# Altium footprint library Microfon.PcbLib: 17 footprints (part 1 of 2)
Each footprint in its own frame and in the unit in brackets; x right, y up, seen from the top. Pads: shape width x height; smd on the part's side, far side on the other; paste and mask are expansions set on the pad; w line width, h text height; cw(c..) or ccw(c..) is an arc to the next point about the centre after c.
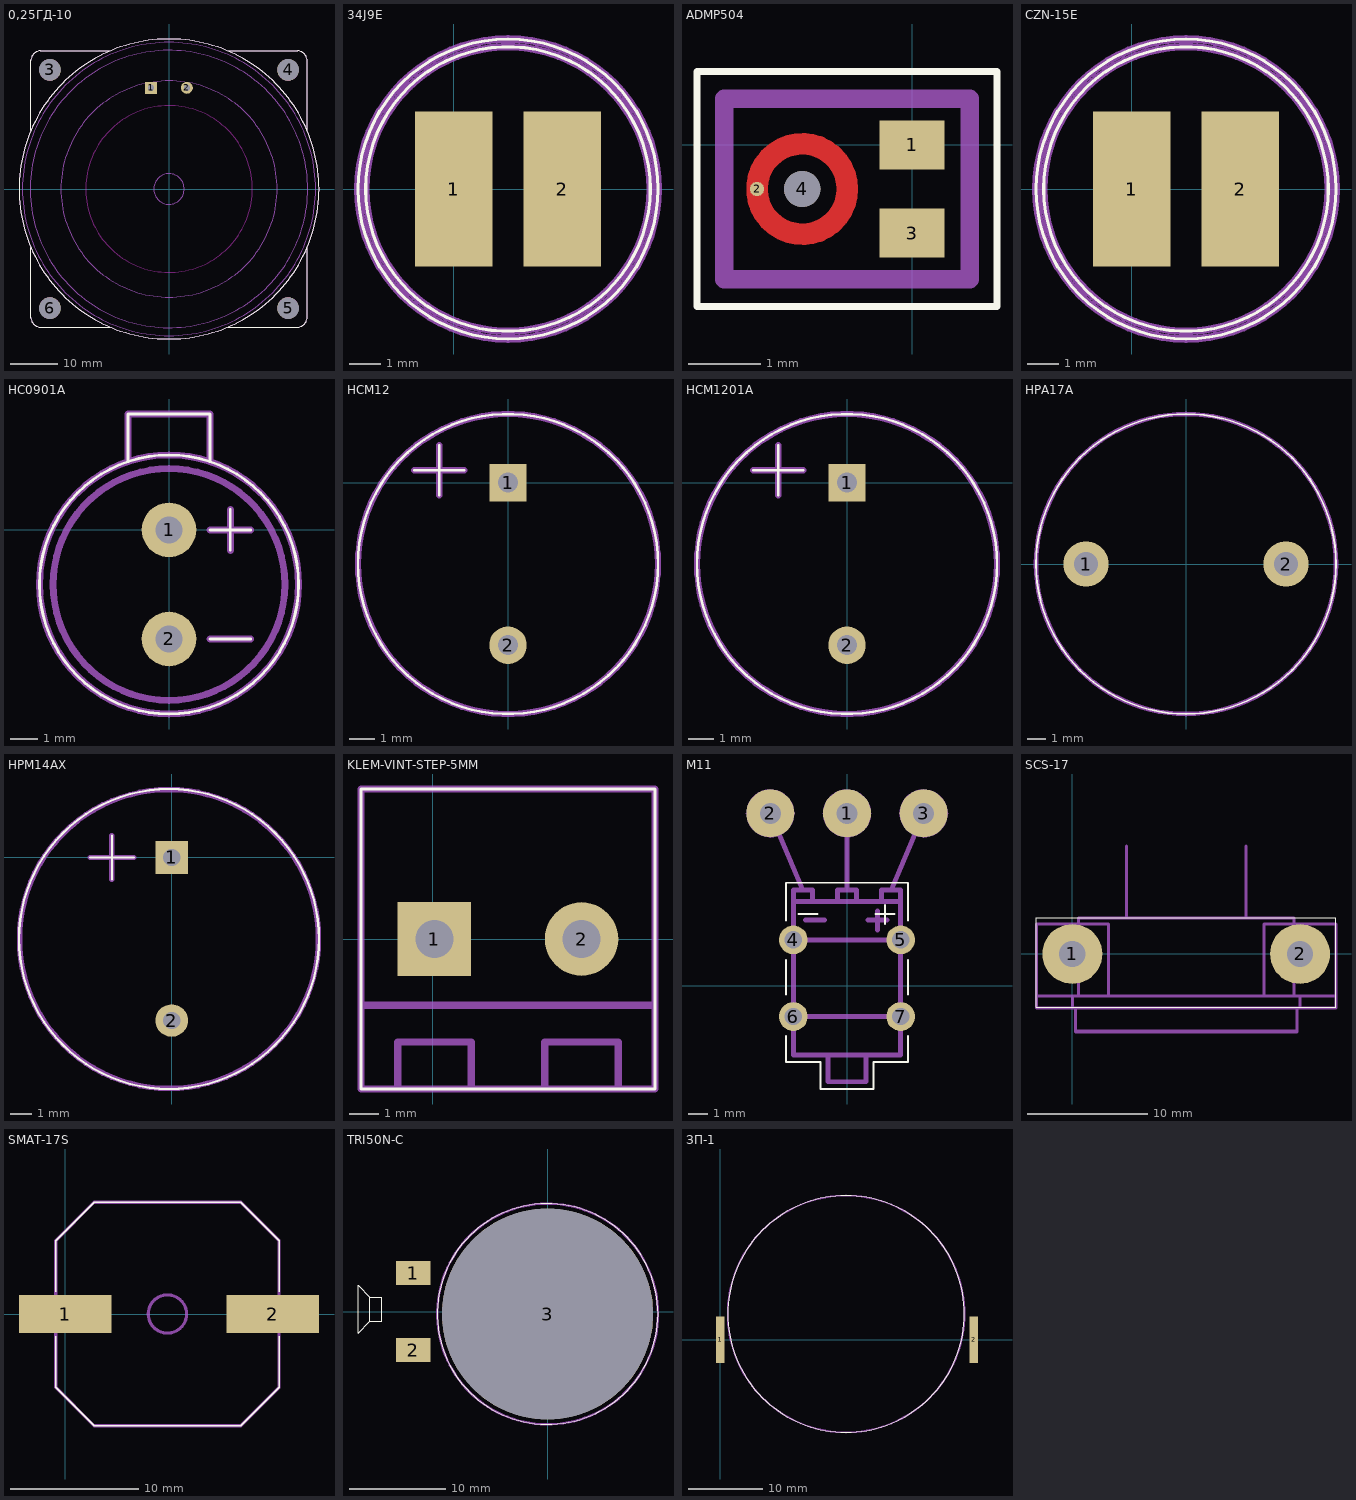
[diagram p0: the footprints below, top view; thin cyan lines are the x and y axes]

## 0,25ГД-10 [mm]
pads (6):
  rect 2.5x2.5 hole 1.3: 1(-3.75,21.25)
  round 2.5 hole 1.3: 2(3.75,21.25)
  round 4.5 hole 4.5: 3(-25,25) 4(25,25) 5(25,-25) 6(-25,-25)
Top Overlay:
  circle w0.1: c0,0 r31.5
  lines w0.1: -29,-12.298 -29,-27 ccw(c-27,-27) -27,-29 -12.298,-29 ; -29,12.299 -29,27 cw(c-27,27) -27,29 -12.298,29 ; 12.298,-29 27,-29 ccw(c27,-27) 29,-27 29,-12.298 ; 12.298,29 27,29 cw(c27,27) 29,27 29,12.299
Keep-Out Layer:
  circle w0.25: c0,0 r17.5
Mechanical 1:
  circle w0.25: c0,0 r22.7
  circle w0.25: c0,0 r30.789
  circle w0.25: c0,0 r29.131
  circle w0.25: c0,0 r31.5
  circle w0.25: c-25,25 r2.15
  circle w0.25: c-25,-25 r2.15
  circle w0.25: c25,25 r2.15
  circle w0.25: c0,0 r3.202
  circle w0.25: c25,-25 r2.15
  lines w0.25: -29,-12.298 -29,-27 ccw(c-27,-27) -27,-29 -12.298,-29 ; -29,12.299 -29,27 cw(c-27,27) -27,29 -12.298,29 ; 12.298,-29 27,-29 ccw(c27,-27) 29,-27 29,-12.298 ; 12.298,29 27,29 cw(c27,27) 29,27 29,12.299

## 34J9E [mm]
pads (2):
  rect 2.5x5 smd: 1(0,0) 2(3.5,0)
Top Overlay:
  lines w0.1: -3.1,0 cw(c1.75,0) 6.6,0 cw(c1.75,0) -3.1,0 ; -2.85,0 cw(c1.75,0) 6.35,0 cw(c1.75,0) -2.85,0
Mechanical 1:
  lines w0.25: -3.1,0 cw(c1.75,0) 6.6,0 cw(c1.75,0) -3.1,0 ; -2.85,0 cw(c1.75,0) 6.35,0 cw(c1.75,0) -2.85,0

## ADMP504 [mm]
pads (4):
  rect 0.9x0.68 smd mask-25.4: 1(0,0) 3(0,-1.22)
  round 0.2 smd mask-25.4: 2(-2.145,-0.61)
  round 0.5 hole 0.5 unplated: 4(-1.52,-0.61)
Top Layer:
  circle w0.3: c-1.52,-0.61 r0.625
Top Overlay:
  lines w0.1: -2.975,-2.235 1.175,-2.235 1.175,1.015 -2.975,1.015 -2.975,-2.235
Top Paste:
  circle w0.3: c-1.52,-0.61 r0.625
Top Solder:
  circle w0.4: c-1.52,-0.61 r0.625
  region: -0.5,-0.39 0.5,-0.39 0.5,0.39 -0.5,0.39
  region: -0.5,-1.61 0.5,-1.61 0.5,-0.83 -0.5,-0.83
  region: -2.145,-0.448 -2.26,-0.495 -2.307,-0.61 -2.26,-0.725 -2.145,-0.772 -2.03,-0.725 -1.983,-0.61 -2.03,-0.495
  region: -1.52,-0.304 -1.637,-0.327 -1.736,-0.394 -1.803,-0.493 -1.826,-0.61 -1.803,-0.727 -1.736,-0.826 -1.637,-0.893 -1.52,-0.916 -1.403,-0.893 -1.304,-0.826 -1.237,-0.727 -1.214,-0.61 -1.237,-0.493 -1.304,-0.394 -1.403,-0.327
Mechanical 1:
  lines w0.254: 0.8,-1.86 -2.6,-1.86 -2.6,0.64 0.8,0.64 ; 0.8,-1.86 0.8,0.64 ; 0.8,-1.86 0.8,0.64

## CZN-15E [mm]
pads (2):
  rect 2.5x5 smd: 1(0,0) 2(3.5,0)
Top Overlay:
  lines w0.1: -3.1,0 cw(c1.75,0) 6.6,0 cw(c1.75,0) -3.1,0 ; -2.85,0 cw(c1.75,0) 6.35,0 cw(c1.75,0) -2.85,0
Mechanical 1:
  lines w0.25: -3.1,0 cw(c1.75,0) 6.6,0 cw(c1.75,0) -3.1,0 ; -2.85,0 cw(c1.75,0) 6.35,0 cw(c1.75,0) -2.85,0

## HC0901A [mm]
pads (2):
  round 2 hole 1: 1(0,0) 2(0,-4)
Top Overlay:
  lines w0.1: -1.5,2.5 -1.5,4.25 1.25,4.25 1.5,4.25 1.5,2.5 ; 1.5,-4 3,-4 ; 1.5,0 3,0 ; 2.25,-0.75 2.25,0.75 ; -4.75,-2 cw(c0,-2) 4.75,-2 cw(c0,-2) -4.75,-2
Mechanical 1:
  lines w0.25: -1.5,2.5 -1.5,4.25 1.25,4.25 1.5,4.25 1.5,2.5 ; 1.5,-4 3,-4 ; 1.5,0 3,0 ; 2.25,-0.75 2.25,0.75 ; -4.75,-2 cw(c0,-2) 4.75,-2 cw(c0,-2) -4.75,-2 ; -4.25,-2 cw(c0,-2) 4.25,-2 cw(c0,-2) -4.25,-2

## HCM12 [mm]
pads (2):
  rect 1.5x1.5 hole 0.8: 1(0,0)
  round 1.5 hole 0.8: 2(0,-6.5)
Top Overlay:
  lines w0.1: -3.75,0.5 -1.75,0.5 ; -2.75,-0.5 -2.75,1.5 ; -6,-3.25 cw(c0,-3.25) 6,-3.25 cw(c0,-3.25) -6,-3.25
Mechanical 1:
  lines w0.25: -3.75,0.5 -1.75,0.5 ; -2.75,-0.5 -2.75,1.5 ; -6,-3.25 cw(c0,-3.25) 6,-3.25 cw(c0,-3.25) -6,-3.25

## HCM1201A [mm]
pads (2):
  rect 1.5x1.5 hole 0.8: 1(0,0)
  round 1.5 hole 0.8: 2(0,-6.5)
Top Overlay:
  lines w0.1: -3.75,0.5 -1.75,0.5 ; -2.75,-0.5 -2.75,1.5 ; -6,-3.25 cw(c0,-3.25) 6,-3.25 cw(c0,-3.25) -6,-3.25
Mechanical 1:
  lines w0.25: -3.75,0.5 -1.75,0.5 ; -2.75,-0.5 -2.75,1.5 ; -6,-3.25 cw(c0,-3.25) 6,-3.25 cw(c0,-3.25) -6,-3.25

## HPA17A [mm]
pads (2):
  round 2.5 hole 1.3: 1(-5.5,0) 2(5.5,0)
Top Overlay:
  lines w0.1: -8.25,0 cw(c0,0) 8.25,0 cw(c0,0) -8.25,0
Mechanical 1:
  lines w0.25: -8.25,0 cw(c0,0) 8.25,0 cw(c0,0) -8.25,0

## HPM14AX [mm]
pads (2):
  rect 1.5x1.5 hole 0.8: 1(0,0)
  round 1.5 hole 0.8: 2(0,-7.5)
Top Overlay:
  lines w0.1: -3.75,0 -1.75,0 ; -2.75,-1 -2.75,1 ; -7.025,-3.75 cw(c-0.125,-3.75) 6.775,-3.75 cw(c-0.125,-3.75) -7.025,-3.75
Mechanical 1:
  lines w0.25: -3.75,0 -1.75,0 ; -2.75,-1 -2.75,1 ; -7,-3.75 cw(c-0.125,-3.75) 6.75,-3.75 cw(c-0.125,-3.75) -7,-3.75

## KLEM-VINT-STEP-5MM [mm]
pads (2):
  rect 2.5x2.5 hole 1.3: 1(0.055,0)
  round 2.5 hole 1.3: 2(5.055,0)
Top Overlay:
  lines w0.1: -2.445,-5.1 7.555,-5.1 7.555,5.1 -2.445,5.1 -2.445,-5.1
Mechanical 1:
  lines w0.25: -2.445,-2.25 7.555,-2.25 ; -1.195,-5 -1.195,-3.5 1.305,-3.5 1.305,-5 ; 3.805,-5 3.805,-3.5 6.305,-3.5 6.305,-5 ; -2.445,-5.1 7.555,-5.1 7.555,5.1 -2.445,5.1 -2.445,-5.1

## M11 [mm]
pads (7):
  round 2.5 hole 1.1: 1(0,9) 2(-4,9) 3(4,9)
  round 1.5 hole 0.9: 4(-2.8,2.4) 5(2.8,2.4) 6(-2.8,-1.6) 7(2.8,-1.6)
Top Overlay:
  lines w0.1: -3.18,-2.62 -3.18,-3.98 -1.38,-3.98 -1.38,-5.38 1.38,-5.38 1.38,-3.98 3.18,-3.98 3.18,-2.62 ; -3.18,-0.45 -3.18,1.35 ; -3.18,3.42 -3.18,5.38 3.18,5.38 3.18,3.42 ; -2.53,3.75 -1.53,3.75 ; 1.48,3.75 2.48,3.75 ; 1.98,3.22 1.98,4.22 ; 3.18,-0.45 3.18,1.35
Mechanical 1:
  circle w0.229: c0,9 r1.143
  circle w0.229: c0,9 r0.508
  circle w0.229: c4,9 r1.143
  circle w0.229: c4,9 r0.508
  circle w0.229: c-4,9 r1.143
  circle w0.229: c-4,9 r0.508
  lines w0.025: -5.27,9 -2.73,9 ; -4,7.73 -4,10.27 ; -1.27,9 1.27,9 ; 0,7.73 0,10.27 ; 2.73,9 5.27,9 ; 4,7.73 4,10.27
  lines w0.254: -4,9 -2.3,5 ; -2.8,-1.6 2.8,-1.6 ; -2.8,2.4 2.8,2.4 ; -2.17,3.43 -1.17,3.43 ; -1.8,4.4 -1.8,5 -2.8,5 -2.8,4.4 ; -1,-3.6 -1,-5 1,-5 1,-3.6 ; -0.5,4.4 -0.5,5 0.5,5 0.5,4.4 ; 0,5 0,9 ; 1.09,3.43 2.09,3.43 ; 1.59,2.9 1.59,3.9 ; 1.8,4.4 1.8,5 2.8,5 2.8,4.4 ; 2.3,5 4,9 ; -2.8,4.4 2.8,4.4 ; -2.8,4.4 -2.8,-3.6 2.8,-3.6 2.8,4.4

## PCBComponent_1 [mm]

## SCS-17 [mm]
pads (2):
  round 5 hole 2.2 unplated: 1(0,0) 2(19,0)
Top Overlay:
  circle w0.025: c19,0 r0.784
  circle w0.025: c0,0 r0.784
  lines w0.1: -3.04,-4.46 21.96,-4.46 21.96,3.04 -3.04,3.04 -3.04,-4.46
Mechanical 1:
  lines w0.15: 0.26,-4.46 0.26,-6.36 18.76,-6.36 18.76,-4.46 ; 4.46,3.04 4.46,5.74 ; 14.46,3.04 14.46,5.74
  lines w0.25: 0.25,-4.5 0.25,-6.5 18.75,-6.5 18.75,-4.5 ; 0.5,-3.5 0.5,3 18.5,3 18.5,-3.5 ; 3,-3.5 3,2.5 0.5,2.5 -3,2.5 -3,-2.5 -3,-3.5 ; 4.5,3 4.5,9 ; 14.5,3 14.5,9 ; 16,-3.5 16,2.5 18.5,2.5 22,2.5 22,-2.5 22,-3.5 ; -3,-3.5 0,-3.5 ; -3,-3.5 -3,-4.5 0,-4.5 ; 0,-4.5 19,-4.5 ; 0,-4.5 0,-3.5 ; 0,-3.5 19,-3.5 ; 19,-4.5 22,-4.5 22,-3.5 ; 19,-4.5 19,-3.5 ; 19,-3.5 22,-3.5

## SMAT-17S [mm]
pads (2):
  rect 7.25x3 smd: 1(0,0) 2(16.25,0)
Top Overlay:
  lines w0.1: -0.75,-1.75 -0.75,-5.75 2.25,-8.75 13.75,-8.75 16.75,-5.75 16.75,-1.75 ; -0.75,1.75 -0.75,5.75 2.25,8.75 13.75,8.75 16.75,5.75 16.75,1.75
Mechanical 1:
  lines w0.25: -0.75,-5.75 2.25,-8.75 13.75,-8.75 16.75,-5.75 16.75,5.75 13.75,8.75 2.25,8.75 -0.75,5.75 -0.75,-5.75 ; 6.5,0 cw(c8,0) 9.5,0 cw(c8,0) 6.5,0

## TRI50N-C [mm]
pads (3):
  rect 3.6x2.5 smd: 1(-14,4) 2(-14,-4)
  round 22 hole 22 unplated: 3(0,-0.25)
Top Overlay:
  circle w0.1: c0,-0.25 r11.5
  lines w0.1: -18.5,-1 -18.5,1.5 ; -18.5,-1 -19.75,-2.25 -19.75,2.75 -18.5,1.5 ; -18.5,-1 -17.25,-1 -17.25,1.5 -18.5,1.5
Mechanical 1:
  circle w0.25: c0,-0.25 r11.5

## ЗП-1 [mm]
pads (2):
  rect 1.2x6.3 smd: 1(0,0) 2(34.25,0)
Top Overlay:
  lines w0.1: 1,3.5 cw(c17,3.5) 33,3.5 cw(c17,3.5) 1,3.5
Mechanical 1:
  lines w0.25: 1,3.5 cw(c17,3.5) 33,3.5 cw(c17,3.5) 1,3.5